# Altium footprint library RFMISC.PcbLib: 3 footprints
Each footprint in its own frame and in the unit in brackets; x right, y up, seen from the top. Pads: shape width x height; smd on the part's side, far side on the other; paste and mask are expansions set on the pad; w line width, h text height; cw(c..) or ccw(c..) is an arc to the next point about the centre after c.
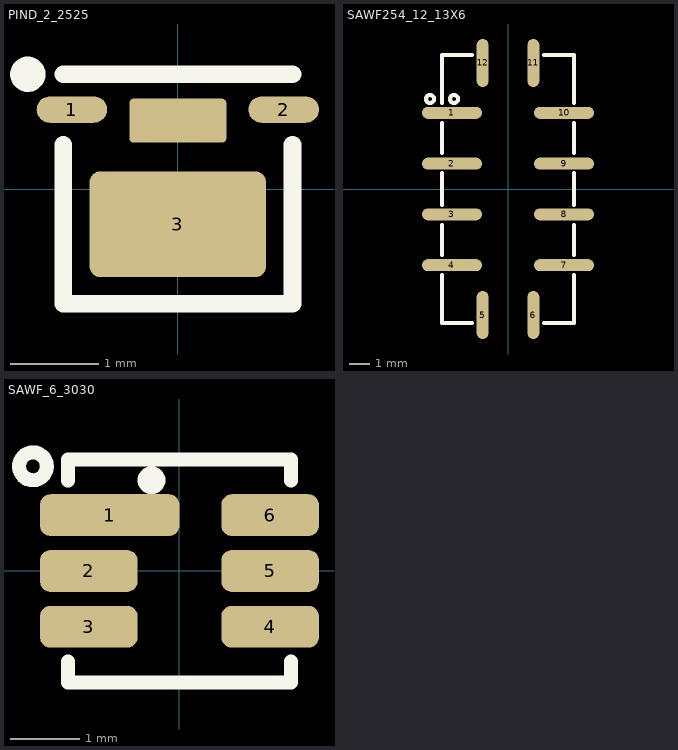
[diagram p0: the footprints below, top view; thin cyan lines are the x and y axes]

## PIND_2_2525 [mm] "RF pin Diode, SKY16601, 2.5x2.5x0.75"
height 0.75
pads (4):
  oval 0.8x0.3 smd mask+0.075: 1(-1.2,0.9) 2(1.2,0.9)
  rrect20% 2x1.2 smd mask+0.075: 3(0,-0.4)
  rrect20% 1.1x0.5 smd mask+0.075: ""(0,0.775)
Top Overlay:
  circle w0.2: c-1.7,1.3 r0.1
  lines w0.2: -1.3,0.5 -1.3,-1.3 1.3,-1.3 1.3,0.5 ; -1.3,1.3 1.3,1.3
3D body: height 0.75, standoff 0, extent -1.25,-1.25 1.25,1.25

## SAWF254_12_13X6 [mm] "SawFilter, SKY16601, 13.3x6.5x1.6, TB0439A"
height 1.6
pads (12):
  oval 3x0.6 smd mask+0.075: 1(-2.8,3.81) 2(-2.8,1.27) 3(-2.8,-1.27) 4(-2.8,-3.81) 7(2.8,-3.81) 8(2.8,-1.27) 9(2.8,1.27) 10(2.8,3.81)
  oval 0.6x2.4 smd mask+0.075: 5(-1.27,-6.3) 6(1.27,-6.3) 11(1.27,6.3) 12(-1.27,6.3)
Top Overlay:
  circle w0.2: c-3.9,4.5 r0.2
  circle w0.2: c-2.7,4.5 r0.2
  lines w0.2: -3.3,-4.3 -3.3,-6.7 -1.8,-6.7 ; -3.3,-3.3 -3.3,-1.8 ; -3.3,-0.8 -3.3,0.8 ; -3.3,1.8 -3.3,3.3 ; -3.3,4.3 -3.3,6.7 -1.8,6.7 ; 1.8,-6.7 3.3,-6.7 3.3,-4.3 ; 1.8,6.7 3.3,6.7 3.3,4.3 ; 3.3,-3.3 3.3,-1.8 ; 3.3,-0.8 3.3,0.8 ; 3.3,1.8 3.3,3.3
3D body: height 1.6, standoff 0, extent -3.25,-6.65 3.25,6.65

## SAWF_6_3030 [mm] "SawFilter, SKY16601, 3x3x1.3, TA0152A"
height 0.75
pads (6):
  rrect50% 2x0.6 smd mask+0.075: 1(-1,0.8)
  rrect50% 1.4x0.6 smd mask+0.075: 2(-1.3,0) 3(-1.3,-0.8) 4(1.3,-0.8) 5(1.3,0) 6(1.3,0.8)
Top Overlay:
  circle w0.2: c-2.1,1.5 r0.2
  circle w0.2: c-0.4,1.3 r0.1
  lines w0.2: -1.6,-1.3 -1.6,-1.6 1.6,-1.6 1.6,-1.3 ; -1.6,1.3 -1.6,1.6 1.6,1.6 1.6,1.3
3D body: height 1.3, standoff 0, extent -1.5,-1.5 1.5,1.5